# Altium footprint library gconn.PcbLib: 1 footprints
Each footprint in its own frame and in the unit in brackets; x right, y up, seen from the top. Pads: shape width x height; smd on the part's side, far side on the other; paste and mask are expansions set on the pad; w line width, h text height; cw(c..) or ccw(c..) is an arc to the next point about the centre after c.
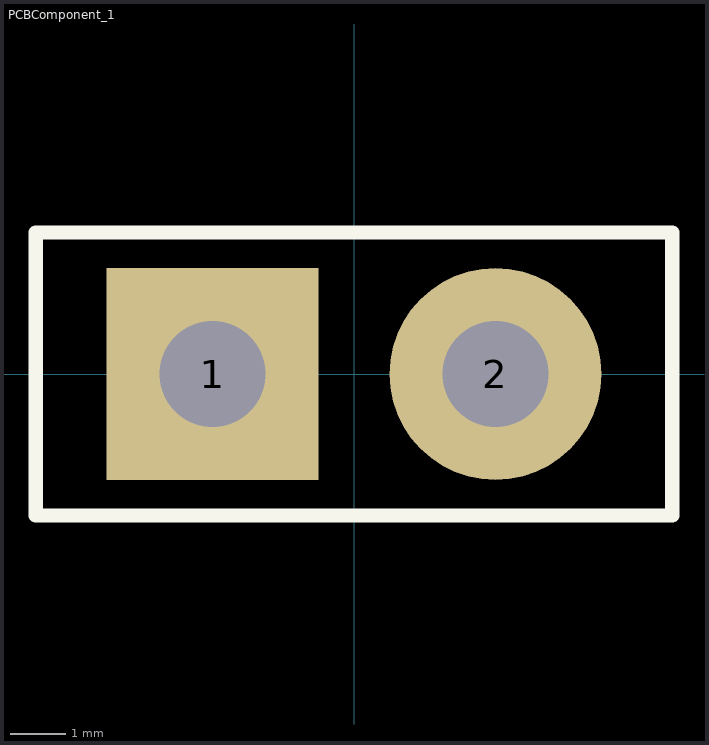
[diagram p0: the footprint, top view; thin cyan lines are the x and y axes]

## PCBComponent_1 [mil]
pads (2):
  rect 150x150 hole 75: 1(-100,0)
  round 150 hole 75: 2(100,0)
Top Overlay:
  lines w10: -225,-100 225,-100 225,100 -225,100 -225,-100